# Altium footprint library MOD-HOLYIOT-17024.PcbLib: 1 footprints
Each footprint in its own frame and in the unit in brackets; x right, y up, seen from the top. Pads: shape width x height; smd on the part's side, far side on the other; paste and mask are expansions set on the pad; w line width, h text height; cw(c..) or ccw(c..) is an arc to the next point about the centre after c.
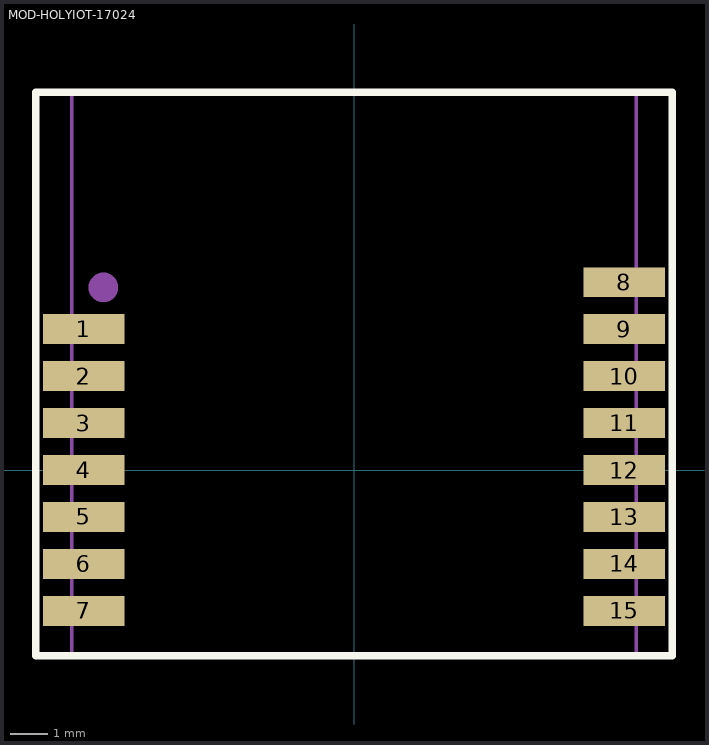
[diagram p0: the footprint, top view; thin cyan lines are the x and y axes]

## MOD-HOLYIOT-17024 [mm]
pads (15):
  rect 2.2x0.8 smd: 1(-7.3,3.81) 2(-7.3,2.54) 3(-7.3,1.27) 4(-7.3,0) 5(-7.3,-1.27) 6(-7.3,-2.54) 7(-7.3,-3.81) 8(7.3,5.08) 9(7.3,3.81) 10(7.3,2.54) 11(7.3,1.27) 12(7.3,0) 13(7.3,-1.27) 14(7.3,-2.54) 15(7.3,-3.81)
Top Overlay:
  lines w0.2: -8.6,-5.025 8.6,-5.025 8.6,10.215 -8.6,10.215 -8.6,-5.025
Top Assembly:
  circle w0.6: c-6.775,4.935 r0.1
  lines w0.1: -7.625,-5.025 7.625,-5.025 7.625,10.215 -7.625,10.215 -7.625,-5.025
  text "'.Designator'" at -0.475,1.335 h0.7
3D body "HOLYIOT-17024-NRF52832+PA.step": height 1.99, standoff -0.01, extent -7.62,-5.029 7.62,10.211